# Altium schematic symbol library JMP4.SchLib: 1 symbol
Pins are listed as number, name and electrical type; pins without a type are passive.

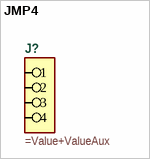
[diagram p0: symbol JMP4]

## JMP4
designator J?
=Description
pins: 1, 2, 3, 4